# Altium footprint library bms_R00.PcbLib: 44 footprints (part 3 of 3)
Each footprint in its own frame and in the unit in brackets; x right, y up, seen from the top. Pads: shape width x height; smd on the part's side, far side on the other; paste and mask are expansions set on the pad; w line width, h text height; cw(c..) or ccw(c..) is an arc to the next point about the centre after c.
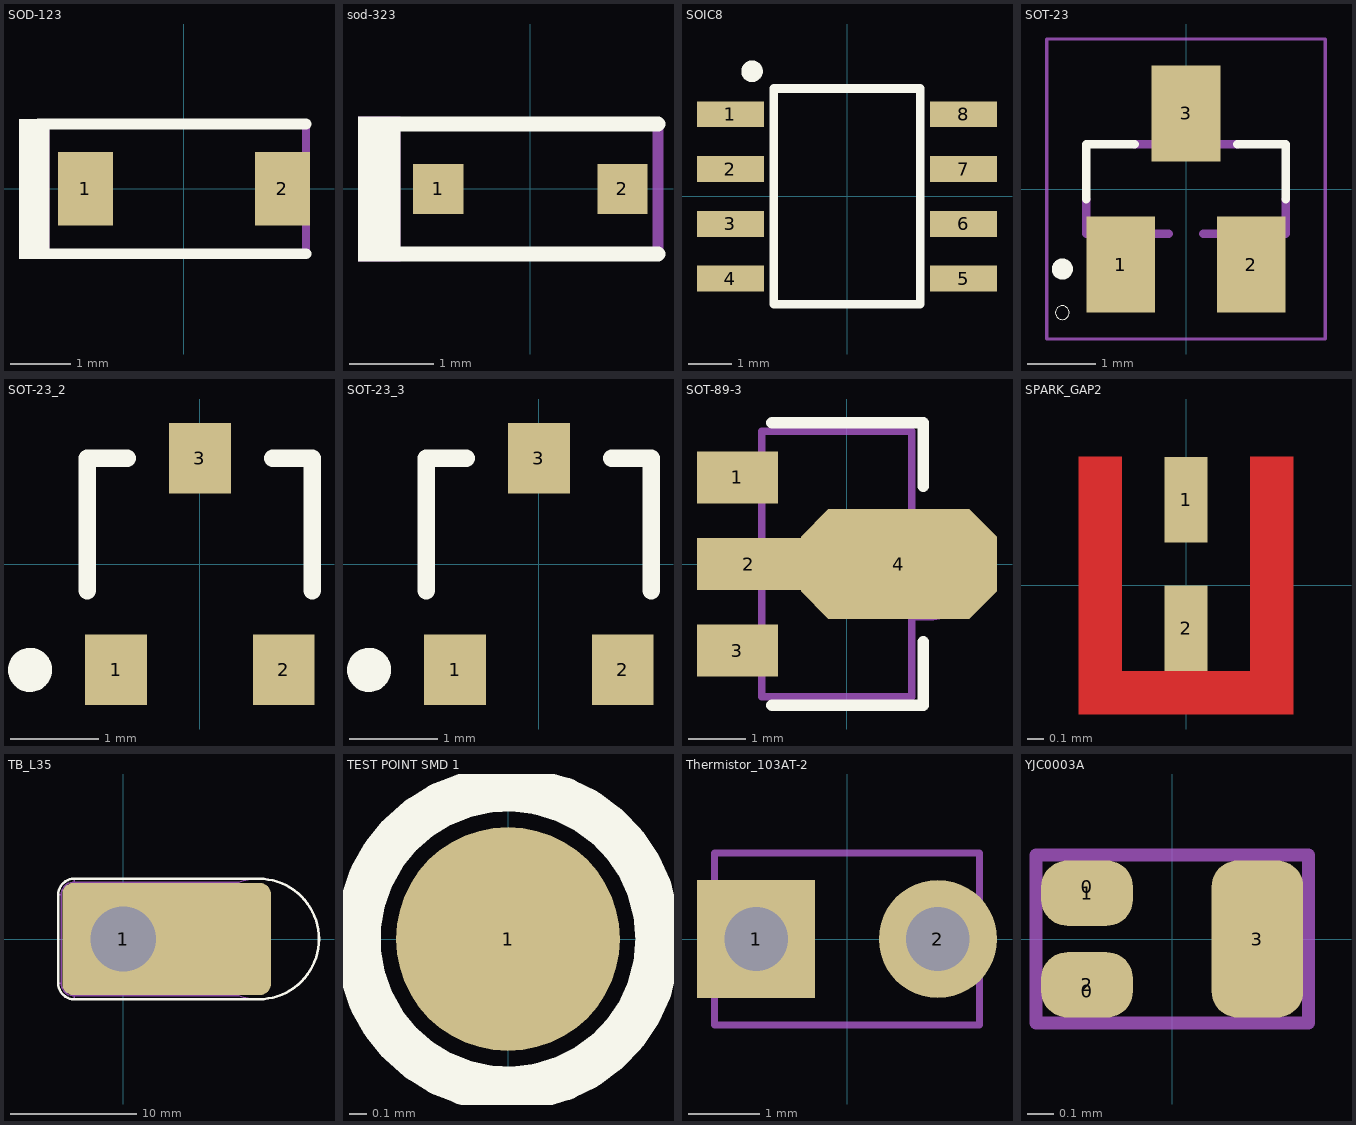
[diagram p2: the footprints below, top view; thin cyan lines are the x and y axes]

## SOD-123 [mm]
height 15.11
pads (2):
  rect 0.915x1.22 smd: 1(-1.637,0) 2(1.637,0)
Top Overlay:
  rectangle: -2.743,-1.171 -2.235,1.166
  lines w0.178: -2.413,-1.079 2.032,-1.079 ; -2.413,1.079 2.032,1.079
Mechanical 5:
  rectangle: -2.743,-1.171 -2.235,1.166
  lines w0.127: -2.413,-1.079 2.032,-1.079 2.032,1.079 -2.413,1.079
  text ".Designator" at -1.956,-0.33 h1.15
3D body "SOD-123.stp": height 1.35, standoff 0, extent -1.932,-0.9 1.932,0.9

## sod-323 [mm]
height 15.11
pads (2):
  rect 0.6x0.6 smd paste-0.05: 1(-1.1,0) 2(1.1,0)
Top Overlay:
  rectangle: -2.057,-0.864 -1.549,0.863
  lines w0.178: -1.803,-0.775 0.1,-0.775 1.525,-0.775 ; -1.803,0.775 0.1,0.775 1.525,0.775
Mechanical 5:
  rectangle: -2.057,-0.864 -1.549,0.863
  lines w0.127: -1.803,-0.775 0.1,-0.775 1.525,-0.775 1.525,0.775 0.1,0.775 -1.803,0.775
  text ".Designator" at -1.4,-0.275 h1.15
3D body "SOD-323.stp": height 1.1, standoff 0, extent -1.3,-0.675 1.3,0.675

## SOIC8 [mm]
height 15.11
pads (8):
  rect 1.55x0.6 smd mask+0.076: 1(-2.7,1.905) 2(-2.7,0.635) 3(-2.7,-0.635) 4(-2.7,-1.905) 5(2.7,-1.905) 6(2.7,-0.635) 7(2.7,0.635) 8(2.7,1.905)
Top Overlay:
  lines w0.2: -1.7,-2.5 1.7,-2.5 1.7,2.5 -1.7,2.5 -1.7,-2.5
  lines w0.25: -2.076,2.883 cw(c-2.2,2.9) -2.075,2.908
3D body "User Library-SOIC-8.STEP": height 1.75, standoff 0, extent -3.048,-2.511 2.964,2.489

## SOT-23 [mm]
height 15.11
pads (3):
  rect 1x1.4 smd: 1(-0.95,-1.1) 2(0.95,-1.1) 3(0,1.1)
Top Overlay:
  circle w0: c-1.8,-1.8 r0.1
  circle w0.254: c-1.8,-1.165 r0.025
  lines w0.127: -1.45,-0.15 -1.45,0.65 -0.75,0.65 ; 0.75,0.65 1.45,0.65 1.45,-0.15
Mechanical 13:
  region: 0.229,0.711 -0.229,0.711 -0.229,1.295 0.229,1.295
  region: 1.168,-1.298 0.713,-1.298 0.713,-0.711 1.168,-0.711
  region: -0.711,-1.297 -1.17,-1.297 -1.17,-0.711 -0.711,-0.711
  lines w0.127: -1.45,-0.15 -1.45,-0.65 -0.25,-0.65 ; -0.75,0.65 0.75,0.65 ; 0.25,-0.65 1.45,-0.65 1.45,-0.15
Mechanical 15:
  lines w0.051: -2.023,-2.183 2.023,-2.183 2.023,2.183 -2.023,2.183 -2.023,-2.183
3D body "BSS84.STEP": height 1.11, standoff 0, extent -1.46,-1.185 1.46,1.185

## SOT-23_2 [mm]
pads (3):
  rect 0.7x0.8 smd: 1(-0.95,-1.2) 2(0.95,-1.2) 3(0,1.2)
Top Overlay:
  circle w0.25: c-1.925,-1.2 r0.125
  lines w0.2: -1.275,-0.3 -1.275,1.2 -0.825,1.2 ; 0.825,1.2 1.275,1.2 1.275,-0.3
3D body "User Library-SOT23-2.STEP": height 1.08, standoff 0, extent -1.524,-1.397 1.476,1.243

## SOT-23_3 [mm]
pads (3):
  rect 0.7x0.8 smd: 1(-0.95,-1.2) 2(0.95,-1.2) 3(0,1.2)
Top Overlay:
  circle w0.25: c-1.925,-1.2 r0.125
  lines w0.2: -1.275,-0.3 -1.275,1.2 -0.825,1.2 ; 0.825,1.2 1.275,1.2 1.275,-0.3
3D body "User Library-SOT23-2.STEP": height 1.08, standoff 0, extent -1.524,-1.397 1.476,1.243

## SOT-89-3 [mm]
height 15.11
pads (4):
  rect 1.4x0.9 smd: 1(-1.9,1.5) 3(-1.9,-1.5)
  rect 1.8x0.9 smd: 2(-1.7,0)
  oct 3.4x1.9 smd: 4(0.9,0)
Top Overlay:
  lines w0.2: -1.3,-2.45 1.325,-2.45 1.325,-1.35 ; -1.3,2.45 1.325,2.45 1.325,1.35
Mechanical 5:
  lines w0.127: -2.414,-1.748 -2.414,-1.282 ; -2.414,-0.249 -2.414,0.218 -1.475,0.218 ; -2.414,1.252 -2.414,1.718 ; -2.407,-1.755 -1.475,-1.755 -1.475,-2.3 ; -2.407,1.245 -1.475,1.245 -1.475,0.222 ; -2.407,-1.275 -1.475,-1.275 -1.475,-0.255 -2.407,-0.255 ; -2.407,1.725 -1.475,1.725 -1.475,2.3 1.125,2.3 1.125,0.885 1.484,0.885 cw(c1.484,0.532) 1.836,0.532 1.836,-0.563 cw(c1.484,-0.563) 1.484,-0.915 1.125,-0.915 1.125,-2.3 -1.475,-2.3
  text ".Designator" at -0.65,1.9 h1.15
3D body "SOT89.stp": height 1.62, standoff 0.02, extent -2.424,-2.284 1.826,2.316

## SPARK_GAP2 [mil]
height 594.88
pads (2):
  rect 10x20 smd: 1(0,20) 2(0,-10)
Top Layer:
  region: -15,30 -25,30 -25,-30 25,-30 25,30 15,30 15,-20 -15,-20
Top Solder:
  region: -25,-30 25,-30 25,40 -25,40

## TB_L35 [mm]
height 15.11
pads (1):
  rrect20% 16.51x8.89 hole 5.16 copper offset 3.429,0: 1(0,0)
Top Overlay:
  lines w0.2: 10.716,-4.763 ccw(c10.716,0) 10.716,4.763 -3.889,4.763 ccw(c-3.889,3.492) -5.159,3.492 -5.159,-3.493 ccw(c-3.889,-3.493) -3.889,-4.763 10.716,-4.763
Mechanical 5:
  circle w0.1: c10.716,0 r4.763
  circle w0.1: c0,0 r2.58
  circle w0.1: c0,0 r2.834
  lines w0.1: 9.181,-4.509 -3.889,-4.509 ; 9.181,4.509 -3.889,4.509 ; 10.716,-4.763 -3.889,-4.763 ; 10.716,4.763 -3.889,4.763 ; -5.159,-3.493 ccw(c-3.889,-3.493) -3.889,-4.763 ; -5.159,-3.493 -5.159,3.492 ; -5.159,-3.493 -4.905,-3.493 ; -5.159,3.492 cw(c-3.889,3.492) -3.889,4.763 ; -5.159,3.492 -4.905,3.492 ; -4.905,-3.493 ccw(c-3.889,-3.493) -3.889,-4.509 ; -4.905,-3.493 -4.905,3.492 ; -4.905,3.492 cw(c-3.889,3.492) -3.889,4.508 ; -3.889,-4.763 -3.889,-4.509 ; -3.889,4.509 -3.889,4.763
  text ".Designator" at 0.813,0.584 h1.15
Multi-Layer:
  circle w4.47: c10.7,0 r2.235
3D body "L35.stp": height 9.53, standoff 0, extent -5.159,-4.762 15.478,4.763

## TEST POINT SMD 1 [mm]
height 15.11
pads (1):
  round 1.27 smd: 1(0,0)
Top Overlay:
  circle w0.254: c0,0 r0.85

## Thermistor_103AT-2 [mil]
height 594.88
pads (2):
  rect 65x65 hole 35: 1(-50,0)
  round 65 hole 35: 2(50,0)
Mechanical 5:
  lines w3.94: -72.83,-47.24 72.83,-47.24 72.83,47.24 -72.83,47.24 -72.83,-47.24
  text ".Designator" at -41,-13 h45.28
3D body: height 338.43, standoff 181.26, extent -78.11,-47.24 78.75,47.24
3D body: height 236.22, standoff -78.74, extent -59.82,-9.82 -40.18,9.82
3D body: height 236.22, standoff -78.74, extent 40.18,-9.82 59.82,9.82

## YJC0003A [mm]
height 15.11
pads (5):
  rrect50% 0.25x0.2 on Top Paste: 0(-0.325,-0.2) 0(-0.325,0.2)
  rrect80% 0.35x0.25 smd paste-0.13 mask-0.05: 1(-0.325,0.175) 2(-0.325,-0.175)
  rrect57% 0.35x0.6 smd paste-0.05 mask-0.05: 3(0.325,0)
Mechanical 5:
  lines w0.05: -0.52,-0.32 -0.52,0.32 0.52,0.32 0.52,-0.32 -0.52,-0.32
  text ".Designator" at -0.425,-0.1 h1.15
3D body "YJC0003A.stp": height 0.35, standoff 0, extent -0.5,-0.3 0.5,0.3